# Altium footprint library Sensor_Current.PcbLib: 35 footprints (part 1 of 3)
Each footprint in its own frame and in the unit in brackets; x right, y up, seen from the top. Pads: shape width x height; smd on the part's side, far side on the other; paste and mask are expansions set on the pad; w line width, h text height; cw(c..) or ccw(c..) is an arc to the next point about the centre after c.
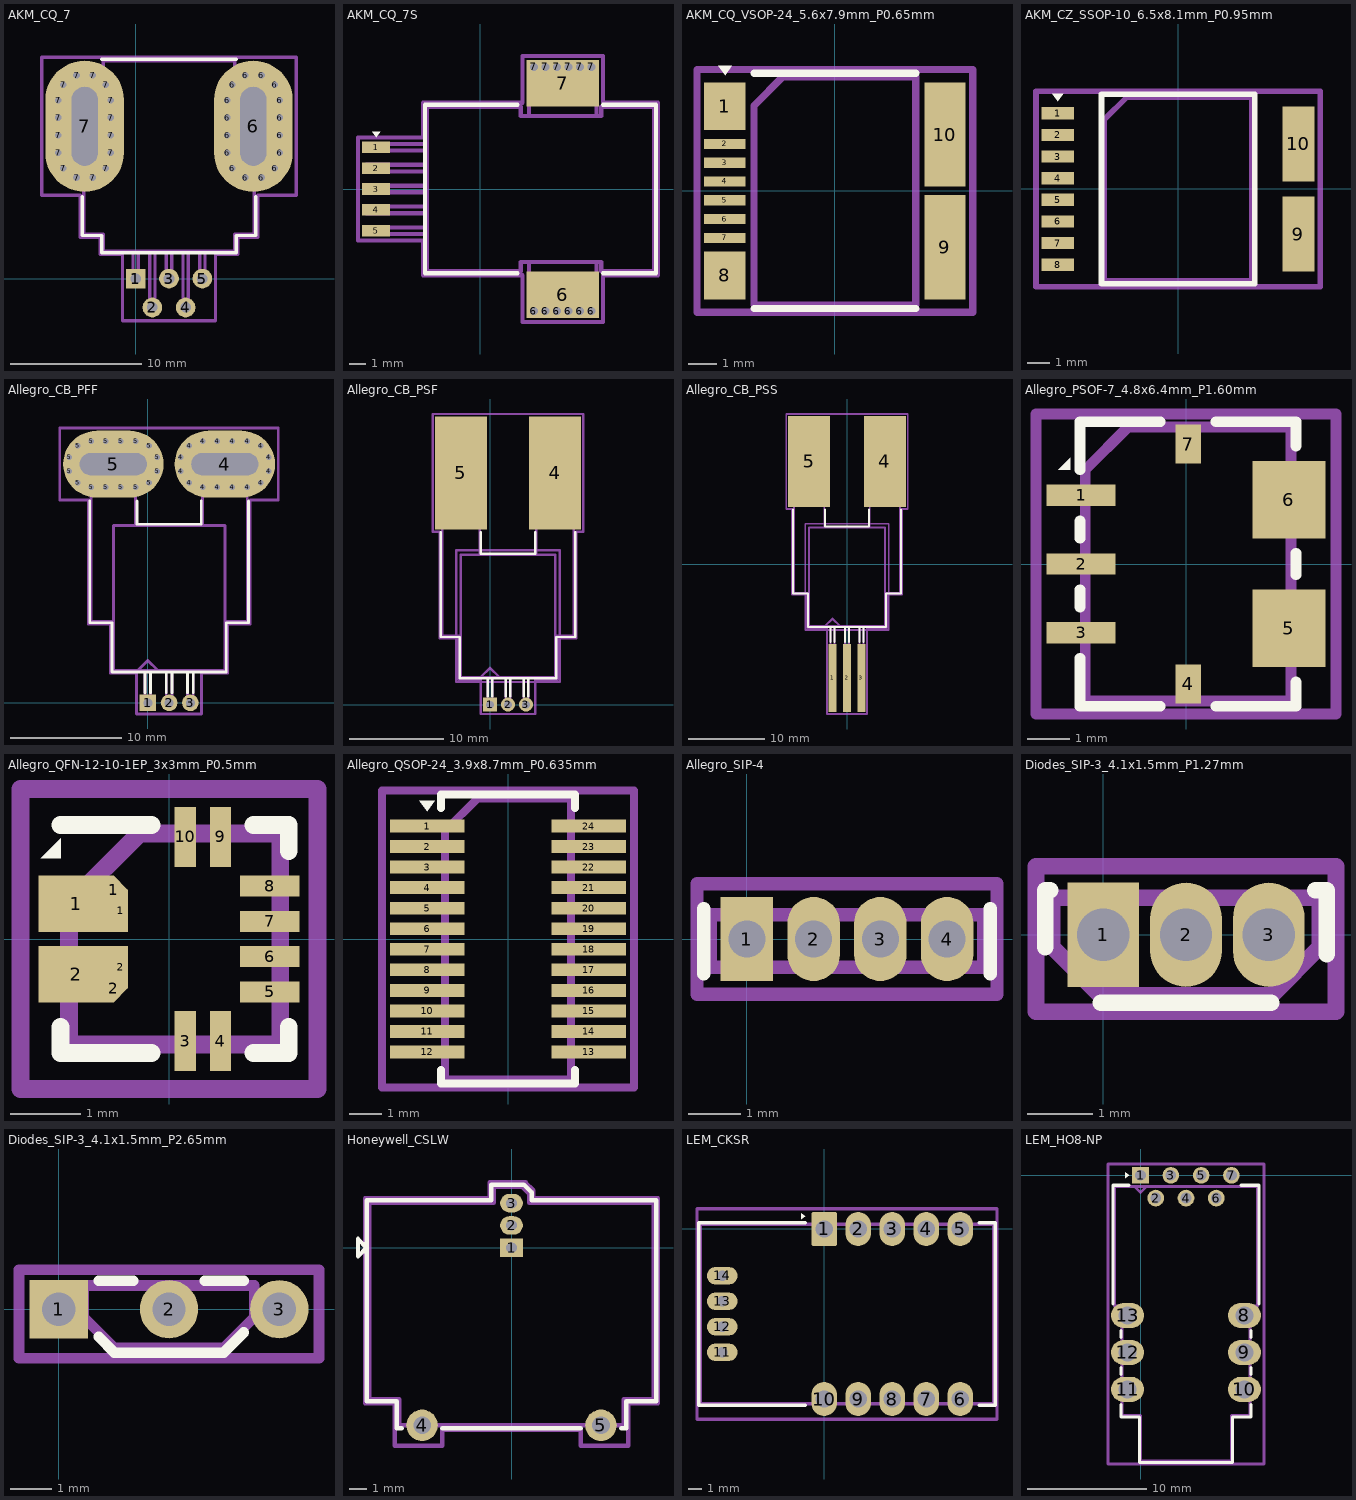
[diagram p0: the footprints below, top view; thin cyan lines are the x and y axes]

## AKM_CQ_7 [mm]
pads (39):
  rect 1.5x1.5 hole 0.8: 1(0,0)
  round 1.5 hole 0.8: 2(1.27,-2.2) 3(2.54,0) 4(3.81,-2.2) 5(5.08,0)
  round 0.8 hole 0.5: 6(6.965,9.6) 6(6.965,10.93) 6(6.965,12.27) 6(6.965,13.6) 6(7.345,8.42) 6(7.345,14.78) 6(8.347,7.7) 6(8.347,15.5) 6(9.583,7.7) 6(9.583,15.5) 6(10.585,8.42) 6(10.585,14.78) 6(10.965,9.6) 6(10.965,10.93) 6(10.965,12.27) 6(10.965,13.6) 7(-5.885,9.6) 7(-5.885,10.93) 7(-5.885,12.27) 7(-5.885,13.6) 7(-5.505,8.42) 7(-5.505,14.78) 7(-4.503,7.7) 7(-4.503,15.5) 7(-3.267,7.7) 7(-3.267,15.5) 7(-2.265,8.42) 7(-2.265,14.78) 7(-1.885,9.6) 7(-1.885,10.93) 7(-1.885,12.27) 7(-1.885,13.6)
  rrect100% 6x10 hole 6 slot 2 at 0 deg: 6(8.965,11.6) 7(-3.885,11.6)
F.SilkS:
  lines w0.254: -4.08,6.25 -4.08,3.28 -2.58,3.28 -2.58,1.98 7.66,1.98 7.66,3.28 9.16,3.28 9.16,6.25 ; -2.58,16.72 7.66,16.72
F.Fab:
  lines w0.254: -0.2,2.1 -0.2,0 0.2,0 0.2,2.1 ; 1.07,2.1 1.07,-2.2 1.47,-2.2 1.47,2.1 ; 2.34,2.1 2.34,0 2.74,0 2.74,2.1 ; 3.61,2.1 3.61,-2.2 4.01,-2.2 4.01,2.1 ; 4.88,2.1 4.88,0 5.28,0 5.28,2.1 ; -3.96,3.4 -3.96,8.3 -2.46,8.3 -2.46,16.6 7.54,16.6 7.54,8.3 9.04,8.3 9.04,3.4 7.54,3.4 7.54,2.1 -2.46,2.1 -2.46,3.4 -3.96,3.4
  text "'.Designator'" at -1.507,9.16 h1
F.CrtYd:
  lines w0.254: -7.14,6.35 -7.14,16.85 12.22,16.85 12.22,6.35 9.29,6.35 9.29,3.15 7.79,3.15 7.79,1.85 6.08,1.85 6.08,-3.2 -1,-3.2 -1,1.85 -2.71,1.85 -2.71,3.15 -4.21,3.15 -4.21,6.35 -7.14,6.35

## AKM_CQ_7S [mm]
pads (19):
  rect 1.7x0.7 smd: 1(-6.35,2.54) 2(-6.35,1.27) 3(-6.35,0) 4(-6.35,-1.27) 5(-6.35,-2.54)
  round 0.8 hole 0.5: 6(3.25,-7.43) 6(3.95,-7.43) 6(4.65,-7.43) 6(5.35,-7.43) 6(6.05,-7.43) 6(6.75,-7.43) 7(3.25,7.43) 7(3.95,7.43) 7(4.65,7.43) 7(5.35,7.43) 7(6.05,7.43) 7(6.75,7.43)
  rect 4.4x2.825 smd: 6(5,-6.425) 7(5,6.425)
F.SilkS:
  region: -6.35,3.15 -6.59,3.48 -6.11,3.48
  lines w0.254: 2.25,-5.12 -3.37,-5.12 -3.37,5.12 2.25,5.12 ; 7.45,-5.12 10.67,-5.12 10.67,5.12 7.45,5.12
F.Fab:
  lines w0.254: -3.25,-2.74 -6.95,-2.74 -6.95,-2.34 -3.25,-2.34 ; -3.25,-1.47 -6.95,-1.47 -6.95,-1.07 -3.25,-1.07 ; -3.25,-0.2 -6.95,-0.2 -6.95,0.2 -3.25,0.2 ; -3.25,1.07 -6.95,1.07 -6.95,1.47 -3.25,1.47 ; -3.25,2.34 -6.95,2.34 -6.95,2.74 -3.25,2.74 ; 2.95,-4.45 2.95,-5.8 7.05,-5.8 7.05,-4.45 ; 2.95,4.45 2.95,5.8 7.05,5.8 7.05,4.45 ; -3.25,-5 2.45,-5 2.45,-4.45 7.35,-4.45 7.35,-5 10.55,-5 10.55,5 7.35,5 7.35,4.45 2.45,4.45 2.45,5 -3.25,5 -3.25,-5
  text "'.Designator'" at 0.953,-0.09 h1
F.CrtYd:
  lines w0.254: -7.45,-3.14 -3.5,-3.14 -3.5,-5.25 2.55,-5.25 2.55,-8.09 7.45,-8.09 7.45,-5.25 10.8,-5.25 10.8,5.25 7.45,5.25 7.45,8.09 2.55,8.09 2.55,5.25 -3.5,5.25 -3.5,3.14 -7.45,3.14 -7.45,-3.14

## AKM_CQ_VSOP-24_5.6x7.9mm_P0.65mm [mm]
pads (10):
  rect 1.42x1.65 smd: 1(-3.81,2.925) 8(-3.81,-2.925)
  rect 1.42x0.35 smd: 2(-3.81,1.625) 3(-3.81,0.975) 4(-3.81,0.325) 5(-3.81,-0.325) 6(-3.81,-0.975) 7(-3.81,-1.625)
  rect 1.42x3.6 smd: 9(3.81,-1.95) 10(3.81,1.95)
F.SilkS:
  region: -3.8,4 -4.04,4.33 -3.56,4.33
  lines w0.254: -2.8,-4.07 2.8,-4.07 ; -2.8,4.07 2.8,4.07
F.Fab:
  lines w0.254: -2.8,-3.95 2.8,-3.95 2.8,3.95 -1.8,3.95 -2.8,2.95 -2.8,-3.95
  text "'.Designator'" at -4.047,-0.84 h1
F.CrtYd:
  lines w0.254: -4.77,-4.2 4.77,-4.2 4.77,4.2 -4.77,4.2 -4.77,-4.2

## AKM_CZ_SSOP-10_6.5x8.1mm_P0.95mm [mm]
pads (10):
  rect 1.42x0.54 smd: 1(-5.29,3.325) 2(-5.29,2.375) 3(-5.29,1.425) 4(-5.29,0.475) 5(-5.29,-0.475) 6(-5.29,-1.425) 7(-5.29,-2.375) 8(-5.29,-3.325)
  rect 1.42x3.3 smd: 9(5.29,-1.98) 10(5.29,1.98)
F.SilkS:
  region: -5.3,3.85 -5.54,4.18 -5.06,4.18
  lines w0.254: -3.37,-4.17 3.37,-4.17 3.37,4.17 -3.37,4.17 -3.37,-4.17
F.Fab:
  lines w0.254: -3.25,-4.05 3.25,-4.05 3.25,4.05 -2.25,4.05 -3.25,3.05 -3.25,-4.05
  text "'.Designator'" at -4.047,-0.84 h1
F.CrtYd:
  lines w0.254: -6.25,-4.3 6.25,-4.3 6.25,4.3 -6.25,4.3 -6.25,-4.3

## Allegro_CB_PFF [mm]
pads (37):
  rect 1.5x1.5 hole 0.8: 1(0,0)
  round 1.5 hole 0.8: 2(1.91,0) 3(3.82,0)
  rrect100% 0.8x0.8 hole 0.5 rot 115: 4(2.96,20.77) 5(0.86,22.03)
  rrect100% 0.8x0.8 hole 0.5 rot 65: 4(2.96,22.03) 5(0.86,20.77)
  round 0.8 hole 0.5: 4(3.71,19.74) 4(3.71,23.06) 4(4.91,19.35) 4(4.91,23.45) 4(6.24,19.35) 4(6.24,23.45) 4(7.58,19.35) 4(7.58,23.45) 4(8.91,19.35) 4(8.91,23.45) 4(10.11,19.74) 4(10.11,23.06) 4(10.86,20.77) 4(10.86,22.03) 5(-7.04,20.77) 5(-7.04,22.03) 5(-6.29,19.74) 5(-6.29,23.06) 5(-5.09,19.35) 5(-5.09,23.45) 5(-3.76,19.35) 5(-3.76,23.45) 5(-2.42,19.35) 5(-2.42,23.45) 5(-1.09,19.35) 5(-1.09,23.45) 5(0.11,19.74) 5(0.11,23.06)
  rrect100% 9x6 hole 2 slot 6 at 0 deg: 4(6.91,21.4) 5(-3.09,21.4)
F.SilkS:
  lines w0.254: -5.21,18.1 -5.21,7.18 -3.21,7.18 -3.21,2.78 7.03,2.78 7.03,7.18 9.03,7.18 9.03,18.1 ; -0.97,18.1 -0.97,16.02 4.79,16.02 4.79,18.1 ; -0.255,0.9 -0.255,2.78 ; 0.255,0.9 0.255,2.78 ; 1.655,0.9 1.655,2.78 ; 2.165,0.9 2.165,2.78 ; 3.565,0.9 3.565,2.78 ; 4.075,0.9 4.075,2.78
F.Fab:
  lines w0.254: -3.09,7.3 -5.09,7.3 -5.09,21.9 -1.09,21.9 -1.09,15.9 ; -0.255,-0.19 -0.255,2.9 ; 0.255,-0.19 0.255,2.9 ; 1.655,-0.19 1.655,2.9 ; 2.165,-0.19 2.165,2.9 ; 3.565,-0.19 3.565,2.9 ; 4.075,-0.19 4.075,2.9 ; 4.91,15.9 4.91,21.9 8.91,21.9 8.91,7.3 6.91,7.3 ; 0,3.8 -0.9,2.9 0,3.8 ; 0,3.8 0.9,2.9 0,3.8 ; -3.09,2.9 -3.09,15.9 6.91,15.9 6.91,2.9 -3.09,2.9
  text "'.Designator'" at 1.75,6.653 h1
F.CrtYd:
  lines w0.254: -7.9,18.2 -7.9,24.65 11.7,24.65 11.7,18.2 9.16,18.2 9.16,7.05 7.16,7.05 7.16,2.65 4.82,2.65 4.82,-1 -1,-1 -1,2.65 -3.34,2.65 -3.34,7.05 -5.34,7.05 -5.34,18.2 -7.9,18.2

## Allegro_CB_PSF [mm]
pads (5):
  rect 1.5x1.5 hole 0.8: 1(0,0)
  round 1.5 hole 0.8: 2(1.91,0) 3(3.82,0)
  rect 5.5x12 smd: 4(6.91,24.6) 5(-3.09,24.6)
F.SilkS:
  lines w0.254: -5.21,18.3 -5.21,7.18 -3.21,7.18 -3.21,2.78 7.03,2.78 7.03,7.18 9.03,7.18 9.03,18.3 ; -0.97,18.3 -0.97,16.02 4.79,16.02 4.79,18.3 ; -0.255,0.9 -0.255,2.78 ; 0.255,0.9 0.255,2.78 ; 1.655,0.9 1.655,2.78 ; 2.165,0.9 2.165,2.78 ; 3.565,0.9 3.565,2.78 ; 4.075,0.9 4.075,2.78
F.Fab:
  lines w0.254: -3.09,7.3 -5.09,7.3 -5.09,26.4 -1.09,26.4 -1.09,15.9 ; -1,2.9 0,3.9 1,2.9 ; -0.255,-0.19 -0.255,2.9 ; 0.255,-0.19 0.255,2.9 ; 1.655,-0.19 1.655,2.9 ; 2.165,-0.19 2.165,2.9 ; 3.565,-0.19 3.565,2.9 ; 4.075,-0.19 4.075,2.9 ; 4.91,15.9 4.91,26.4 8.91,26.4 8.91,7.3 6.91,7.3 ; -3.09,2.9 -3.09,15.9 6.91,15.9 6.91,2.9 -3.09,2.9
  text "'.Designator'" at 1.75,6.653 h1
F.CrtYd:
  lines w0.254: -6.09,18.35 -6.09,30.85 9.91,30.85 9.91,18.35 9.16,18.35 9.16,7.05 7.16,7.05 7.16,2.65 4.82,2.65 4.82,-1 -1,-1 -1,2.65 -3.34,2.65 -3.34,7.05 -5.34,7.05 -5.34,18.35 -6.09,18.35
Edge.Cuts:
  lines w0.254: -3.59,2.4 -3.59,16.4 7.41,16.4 7.41,2.4 -3.59,2.4

## Allegro_CB_PSS [mm]
pads (5):
  rect 1x9 smd: 1(-1.91,-15.006) 2(0,-15.006) 3(1.91,-15.006)
  rect 5.5x12 smd: 4(5,13.506) 5(-5,13.506)
F.SilkS:
  lines w0.254: -7.12,7.206 -7.12,-3.914 -5.12,-3.914 -5.12,-8.314 5.12,-8.314 5.12,-3.914 7.12,-3.914 7.12,7.206 ; -2.88,7.206 -2.88,4.926 2.88,4.926 2.88,7.206 ; -2.165,-10.256 -2.165,-8.314 ; -1.655,-10.256 -1.655,-8.314 ; -0.255,-10.256 -0.255,-8.314 ; 0.255,-10.256 0.255,-8.314 ; 1.655,-10.256 1.655,-8.314 ; 2.165,-10.256 2.165,-8.314
F.Fab:
  lines w0.254: -5,-3.794 -7,-3.794 -7,15.306 -3,15.306 -3,4.806 ; -2.91,-8.194 -1.91,-7.194 -0.91,-8.194 ; -2.165,-8.194 -2.165,-19.194 -1.655,-19.194 -1.655,-8.194 ; -0.255,-8.194 -0.255,-19.194 0.255,-19.194 0.255,-8.194 ; 1.655,-8.194 1.655,-19.194 2.165,-19.194 2.165,-8.194 ; 3,4.806 3,15.306 7,15.306 7,-3.794 5,-3.794 ; -5,-8.194 -5,4.806 5,4.806 5,-8.194 -5,-8.194
  text "'.Designator'" at -0.16,-3.303 h1
F.CrtYd:
  lines w0.254: -8,7.25 -8,19.76 8,19.76 8,7.25 7.25,7.25 7.25,-4.05 5.25,-4.05 5.25,-8.45 2.66,-8.45 2.66,-19.76 -2.66,-19.76 -2.66,-8.45 -5.25,-8.45 -5.25,-4.05 -7.25,-4.05 -7.25,7.25 -8,7.25
Edge.Cuts:
  lines w0.254: -5.5,-8.694 -5.5,5.306 5.5,5.306 5.5,-8.694 -5.5,-8.694

## Allegro_PSOF-7_4.8x6.4mm_P1.60mm [mm]
pads (7):
  rect 1.6x0.5 smd: 1(-2.45,1.6) 2(-2.45,0) 3(-2.45,-1.6)
  rect 0.6x0.9 smd: 4(0.05,-2.8) 7(0.05,2.8)
  rect 1.7x1.8 smd: 5(2.4,-1.5) 6(2.4,1.5)
F.SilkS:
  region: -2.7,2.2 -2.98,2.2 -2.7,2.48
  lines w0.254: -2.47,-2.2 -2.47,-3.32 -0.6,-3.32 ; -2.47,-1 -2.47,-0.6 ; -2.47,0.6 -2.47,1 ; -2.47,2.2 -2.47,3.32 -0.6,3.32 ; 0.7,-3.32 2.57,-3.32 2.57,-2.75 ; 0.7,3.32 2.57,3.32 2.57,2.75 ; 2.57,-0.25 2.57,0.25
F.Fab:
  lines w0.254: -2.35,-3.2 -2.35,2.2 -1.35,3.2 2.45,3.2 2.45,-3.2 -2.35,-3.2
  text "'.Designator'" at -4.047,-0.84 h1
F.CrtYd:
  lines w0.254: -3.5,-3.5 -3.5,3.5 3.5,3.5 3.5,-3.5 -3.5,-3.5

## Allegro_QFN-12-10-1EP_3x3mm_P0.5mm [mm]
pads (14):
  rect 1.07x0.8 smd: 1(-1.32,0.5) 2(-1.32,-0.5)
  rect 0.283x0.283 smd rot 45: 1(-0.785,0.7) 2(-0.785,-0.7)
  rect 0.2x0.6 smd: 1(-0.685,0.4) 2(-0.685,-0.4)
  rect 0.3x0.85 smd: 3(0.23,-1.45) 4(0.73,-1.45) 9(0.73,1.45) 10(0.23,1.45)
  rect 0.85x0.3 smd: 5(1.43,-0.75) 6(1.43,-0.25) 7(1.43,0.25) 8(1.43,0.75)
F.SilkS:
  region: -1.54,1.15 -1.82,1.15 -1.54,1.43
  lines w0.254: -1.54,-1.25 -1.54,-1.62 -0.25,-1.62 ; -1.54,1.62 -0.25,1.62 ; 1.2,-1.62 1.7,-1.62 1.7,-1.25 ; 1.2,1.62 1.7,1.62 1.7,1.25
F.Fab:
  lines w0.254: -1.42,-1.5 -1.42,0.5 -0.42,1.5 1.58,1.5 1.58,-1.5 -1.42,-1.5
  text "'.Designator'" at -2.828,-0.583 h0.7
F.CrtYd:
  lines w0.254: -2.11,-2.13 -2.11,2.13 2.11,2.13 2.11,-2.13 -2.11,-2.13

## Allegro_QSOP-24_3.9x8.7mm_P0.635mm [mm]
pads (24):
  rect 2.3x0.4 smd: 1(-2.5,3.492) 2(-2.5,2.857) 3(-2.5,2.222) 4(-2.5,1.587) 5(-2.5,0.953) 6(-2.5,0.318) 7(-2.5,-0.318) 8(-2.5,-0.953) 9(-2.5,-1.587) 10(-2.5,-2.222) 11(-2.5,-2.857) 12(-2.5,-3.492) 13(2.5,-3.492) 14(2.5,-2.857) 15(2.5,-2.222) 16(2.5,-1.587) 17(2.5,-0.953) 18(2.5,-0.318) 19(2.5,0.318) 20(2.5,0.953) 21(2.5,1.587) 22(2.5,2.222) 23(2.5,2.857) 24(2.5,3.492)
F.SilkS:
  region: -2.5,3.95 -2.74,4.28 -2.26,4.28
  lines w0.254: -2.07,-4.05 -2.07,-4.47 2.07,-4.47 2.07,-4.05 ; -2.07,4.05 -2.07,4.47 2.07,4.47 2.07,4.05
F.Fab:
  lines w0.254: -1.95,-4.35 -1.95,3.35 -0.95,4.35 1.95,4.35 1.95,-4.35 -1.95,-4.35
  text "'.Designator'" at -4.047,-0.84 h1
F.CrtYd:
  lines w0.254: -3.9,-4.6 -3.9,4.6 3.9,4.6 3.9,-4.6 -3.9,-4.6

## Allegro_SIP-4 [mm]
pads (4):
  rect 1x1.6 hole 0.7: 1(0,0)
  rrect100% 1x1.6 hole 0.7: 2(1.27,0) 3(2.54,0) 4(3.81,0)
F.SilkS:
  lines w0.254: -0.82,-0.66 -0.82,0.58 ; 4.63,-0.66 4.63,0.58
F.Fab:
  lines w0.254: -0.7,-0.54 -0.7,0.46 4.51,0.46 4.51,-0.54 -0.7,-0.54
  text "'.Designator'" at -0.923,-0.583 h0.7
F.CrtYd:
  lines w0.254: -0.95,-1.05 -0.95,1.05 4.76,1.05 4.76,-1.05 -0.95,-1.05

## Diodes_SIP-3_4.1x1.5mm_P1.27mm [mm]
pads (3):
  rect 1.1x1.6 hole 0.8: 1(0,0)
  rrect100% 1.1x1.6 hole 0.8: 2(1.27,0) 3(2.54,0)
F.SilkS:
  lines w0.254: -0.89,-0.19 -0.89,0.68 -0.81,0.68 ; -0.04,-1.04 2.58,-1.04 ; 3.25,0.68 3.43,0.68 3.43,-0.3
F.Fab:
  lines w0.254: -0.78,-0.19 -0.04,-0.93 2.58,-0.93 3.32,-0.19 3.32,0.57 -0.78,0.57 -0.78,-0.19
  text "'.Designator'" at -1.558,-0.583 h0.7
F.CrtYd:
  lines w0.254: -1.03,-1.18 3.57,-1.18 3.57,1.05 -1.03,1.05 -1.03,-1.18

## Diodes_SIP-3_4.1x1.5mm_P2.65mm [mm]
pads (3):
  rect 1.4x1.4 hole 0.8: 1(0,0)
  round 1.4 hole 0.8: 2(2.65,0) 3(5.3,0)
F.SilkS:
  lines w0.254: 0.96,-0.658 1.34,-1.04 3.96,-1.04 4.44,-0.56 ; 0.96,0.68 1.79,0.68 ; 3.51,0.68 4.44,0.68
F.Fab:
  lines w0.254: 0.6,-0.19 0.6,0.57 4.7,0.57 4.7,-0.19 3.96,-0.93 1.34,-0.93 0.6,-0.19
  text "'.Designator'" at -0.228,-0.833 h0.7
F.CrtYd:
  lines w0.254: -0.95,-1.18 -0.95,0.95 6.25,0.95 6.25,-1.18 -0.95,-1.18

## Honeywell_CSLW [mm]
pads (5):
  rect 1.3x1.05 hole 0.6: 1(0,0)
  rrect100% 1.3x1.05 hole 0.6: 2(0,1.27) 3(0,2.54)
  round 1.8 hole 1: 4(-5.1,-10.13) 5(5.1,-10.13)
F.SilkS:
  lines w0.254: -6.25,-10.3 -6.55,-10.3 -6.55,-8.75 -8.25,-8.75 -8.25,2.7 -1.15,2.7 -1.15,3.6 0.7,3.6 1.15,3.15 1.15,2.7 8.25,2.7 8.25,-8.75 6.55,-8.75 6.55,-10.3 6.25,-10.3 ; -3.95,-10.3 3.95,-10.3 ; -8.75,-0.5 -8.75,0.5 -8.25,0 -8.75,-0.5
F.Fab:
  lines w0.254: -8.1,-8.63 -8.1,2.57 -1,2.57 -1,3.47 0.6,3.47 1,3.07 1,2.57 8.1,2.57 8.1,-8.63 6.4,-8.63 6.4,-10.13 -6.4,-10.13 -6.4,-8.63 -8.1,-8.63
  text "'.Designator'" at -4.047,-7.77 h1
F.CrtYd:
  lines w0.254: -8.35,-8.88 -8.35,2.82 -1.25,2.82 -1.25,3.72 0.8,3.72 1.25,3.27 1.25,2.82 8.35,2.82 8.35,-8.88 6.65,-8.88 6.65,-11.28 3.95,-11.28 3.95,-10.38 -3.95,-10.38 -3.95,-11.28 -6.65,-11.28 -6.65,-8.88 -8.35,-8.88

## LEM_CKSR [mm]
pads (14):
  rrect13% 1.9x2.54 hole 1.3: 1(0,0)
  rrect100% 1.9x2.54 hole 1.3: 2(2.54,0) 3(5.08,0) 4(7.62,0) 5(10.16,0) 6(10.16,-12.7) 7(7.62,-12.7) 8(5.08,-12.7) 9(2.54,-12.7) 10(0,-12.7)
  rrect100% 2.3x1.3 hole 0.8: 11(-7.62,-9.207) 12(-7.62,-7.302) 13(-7.62,-5.397) 14(-7.62,-3.492)
F.SilkS:
  region: -1.4,0.95 -1.73,0.71 -1.73,1.19
  lines w0.254: -1.41,-13.16 -9.36,-13.16 -9.36,0.46 -1.41,0.46 ; 11.57,-13.16 12.77,-13.16 12.77,0.46 11.57,0.46
F.Fab:
  lines w0.254: -0.5,0.35 0,-0.21 0.5,0.35 ; -9.25,-13.05 -9.25,0.35 12.66,0.35 12.66,-13.05 -9.25,-13.05
  text "'.Designator'" at -2.342,-7.19 h1
F.CrtYd:
  lines w0.254: -9.5,-14.22 -9.5,1.52 12.91,1.52 12.91,-14.22 -9.5,-14.22

## LEM_HO8-NP [mm]
pads (13):
  rect 1.4x1.4 hole 0.9: 1(0,0)
  round 1.4 hole 0.9: 2(1.27,-1.905) 3(2.54,0) 4(3.81,-1.905) 5(5.08,0) 6(6.35,-1.905) 7(7.62,0)
  rrect100% 2.75x2.1 hole 1.5: 8(8.71,-11.735) 9(8.71,-14.835) 10(8.71,-17.935) 11(-1.09,-17.935) 12(-1.09,-14.835) 13(-1.09,-11.735)
F.SilkS:
  region: -0.95,0 -1.28,-0.24 -1.28,0.24
  lines w0.254: -2.3,-10.8 -2.3,-0.83 -0.95,-0.83 ; -1.65,-20.25 -0.1,-20.25 -0.1,-24.05 7.72,-24.05 7.72,-20.25 9.27,-20.25 ; -1.65,-20.24 -1.65,-19.2 ; -1.65,-16.7 -1.65,-16.1 ; -1.65,-13.6 -1.65,-13 ; 8.4,-0.83 9.92,-0.83 9.92,-10.8 ; 9.27,-20.24 9.27,-19.2 ; 9.27,-16.7 9.27,-16.1 ; 9.27,-13.6 9.27,-13
F.Fab:
  lines w0.254: -0.5,-0.94 0,-1.44 0.5,-0.94 ; -2.19,-10.94 -1.54,-10.94 -1.54,-20.14 0.01,-20.14 0.01,-23.94 7.61,-23.94 7.61,-20.14 9.16,-20.14 9.16,-10.94 9.81,-10.94 9.81,-0.94 -2.19,-0.94 -2.19,-10.94
  text "'.Designator'" at 5.85,-15.782 h1
F.CrtYd:
  lines w0.254: -2.72,-24.19 10.34,-24.19 10.34,0.95 -2.72,0.95 -2.72,-24.19
3D body "LEM_HO8-NP.step": height 12, standoff -3.5, extent -2.19,-23.94 9.81,0.2